# Altium integrated library UJC-HP-G-SMT-TR.IntLib: 1 symbol
Pins are listed as number, name and electrical type; pins without a type are passive.

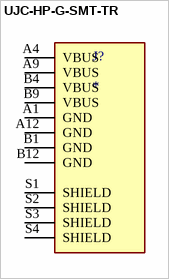
[diagram p0: symbol UJC-HP-G-SMT-TR]

## UJC-HP-G-SMT-TR
designator J?
Type C, 5 A, Right Angle, Surface Mount (SMT), Power-Only USB Receptacle; MF: CUI Devices; MP: UJC-HP-G-SMT-TR; Value: *; Price: None; Package: None; Check_prices: https://www.snapeda.com/parts/UJC-HP-G-SMT-TR/CUI+Devices/view-part/?ref=eda; CUI_purchase_URL: https://www.cuidevices.com/product/interconnect/connectors/usb-connectors/ujc-hp-g-smt-tr?utm_source=snapeda.com&utm_medium=referral&utm_campaign=snapedaBOM; Availability: In Stock; SnapEDA_Link: https://www.snapeda.com/parts/UJC-HP-G-SMT-TR/CUI+Devices/view-part/?ref=snap; Purchase-URL: https://pricing.snapeda.com/search/part/UJC-HP-G-SMT-TR/?ref=eda
footprint CUI_UJC-HP-G-SMT-TR
pins: A1 GND (power), A4 VBUS (power), A9 VBUS (power), A12 GND (power), B1 GND (power), B4 VBUS (power), B9 VBUS (power), B12 GND (power), S1 SHIELD, S2 SHIELD, S3 SHIELD, S4 SHIELD